# Altium footprint library PCB_OuvrePorte_raspdim.PcbLib: 13 footprints
Each footprint in its own frame and in the unit in brackets; x right, y up, seen from the top. Pads: shape width x height; smd on the part's side, far side on the other; paste and mask are expansions set on the pad; w line width, h text height; cw(c..) or ccw(c..) is an arc to the next point about the centre after c.
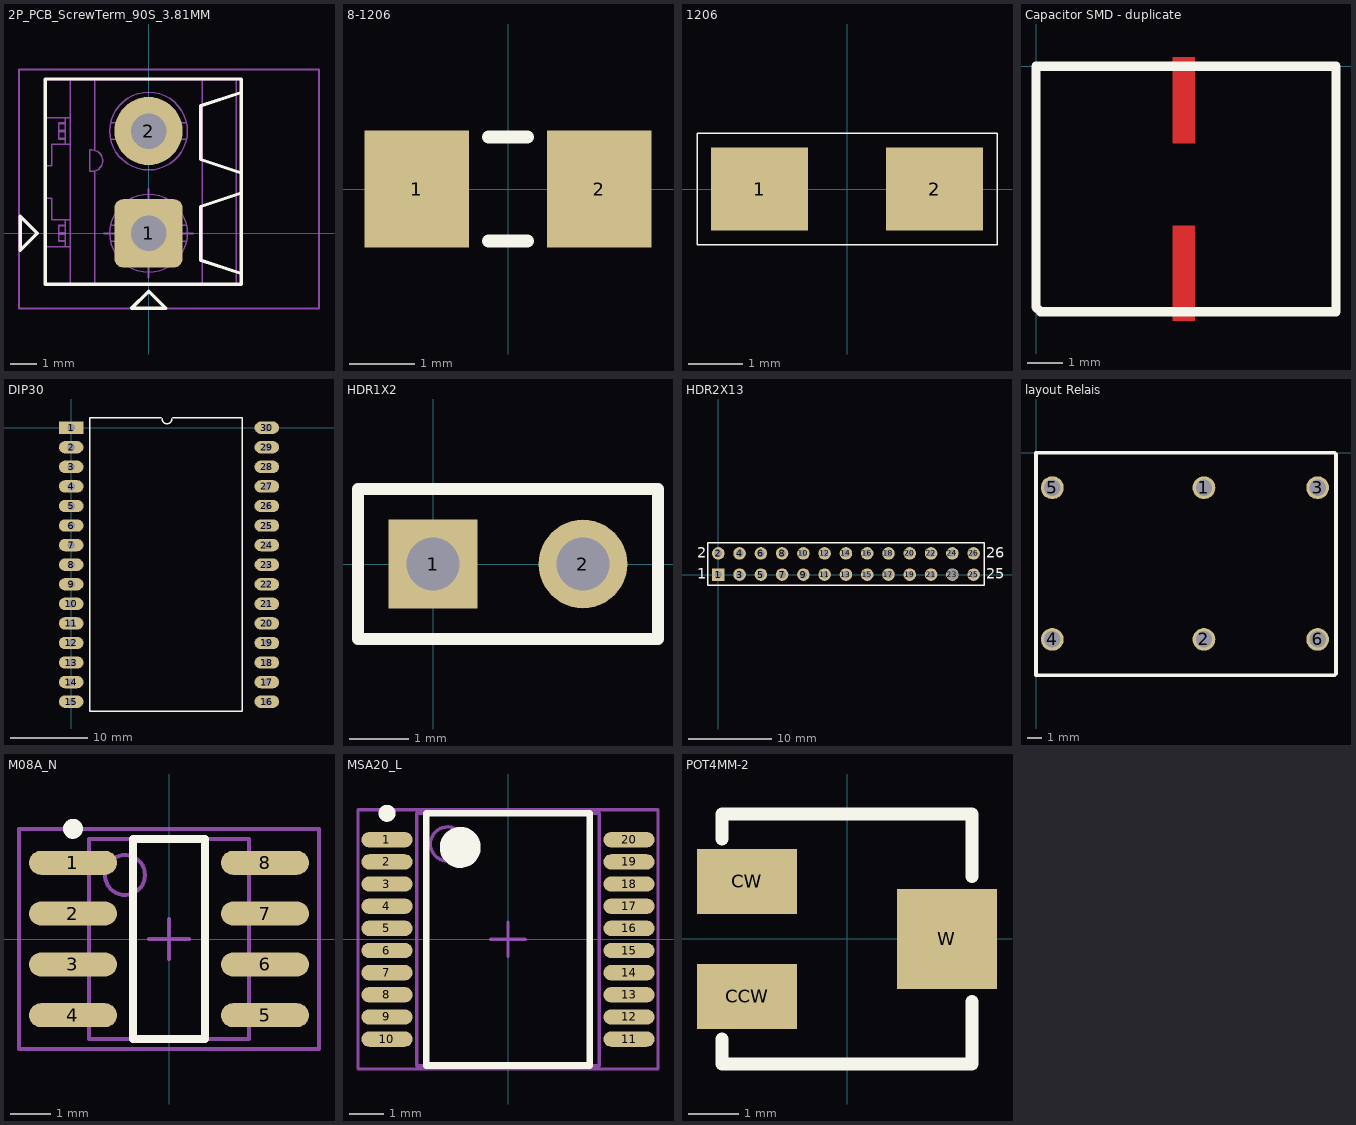
[diagram p0: the footprints below, top view; thin cyan lines are the x and y axes]

## 2P_PCB_ScrewTerm_90S_3.81MM [mil] "TERM BLOCK 2POS SIDE ENT STACKABLE 3.81MM"
height 334.65
pads (2):
  rrect25% 100x100 hole 52: 1(0,0)
  round 100 hole 52: 2(0,150)
Top Overlay:
  lines w5: 135.83,-59.06 76.78,-39.37 76.78,39.37 135.83,59.06 ; 135.83,88.58 76.78,108.27 76.78,187.01 135.83,206.69 ; -188,-25 -163,0 -188,25 -188,-25 ; -151.57,-75 -151.57,226.38 135.83,226.38 135.83,-75 -151.57,-75 ; -25,-110 25,-110 0,-85 -25,-110
Mechanical 13:
  circle w1.97: c0,0 r57.09
  circle w1.97: c0,150 r57.09
  lines w1.97: -151.57,-19.69 -114.76,-19.69 -114.76,19.68 -141.73,19.68 -141.73,51.18 -151.57,51.18 ; -151.57,98.82 -141.73,98.82 -141.73,130.31 -114.76,130.31 -114.76,169.69 -151.57,169.69 ; -131.89,-10.91 -122.05,-10.91 ; -131.89,-1.06 -122.05,-1.06 ; -131.89,1.06 -122.05,1.06 ; -131.89,10.91 -122.05,10.91 ; -131.89,139.09 -122.05,139.09 ; -131.89,148.94 -122.05,148.94 ; -131.89,151.06 -122.05,151.06 ; -131.89,160.91 -122.05,160.91 ; -122.05,-19.69 -122.05,19.68 ; -122.05,-11.81 -131.89,-11.81 -131.89,11.81 -122.05,11.81 ; -122.05,130.31 -122.05,169.69 ; -122.05,138.19 -131.89,138.19 -131.89,161.81 -122.05,161.81 ; -114.56,-75 -114.56,225 ; -78.74,-75 -78.74,91.34 ; -78.74,121.65 -78.74,225 ; -55.85,-11.81 55.85,-11.81 ; -55.85,11.81 55.85,11.81 ; -55.85,138.19 55.85,138.19 ; -55.85,161.81 55.85,161.81 ; 78.74,-75 78.74,225 ; 128.89,-75 128.89,225 ; -151.57,-75 -151.57,225 135.83,225 135.83,-75 -151.57,-75 ; -85.91,90.75 -83.03,90.75 ccw(c-83.03,106.5) -83.03,122.24 -85.91,122.24 -85.91,90.75
Mechanical 14:
  lines w3: -65,0 65,0 ; 0,-65 0,65 ; -190,-110 -190,240 250,240 250,-110 -190,-110
3D body: height 334.65, standoff -137.8, extent -151.57,-75.19 135.83,224.81

## 8-1206 [mm] "Chip Resistor; Body 3.1 x 1.6 mm (LxW typ)"
height 0.7
pads (2):
  rect 1.6x1.8 smd: 1(-1.4,0) 2(1.4,0)
Top Overlay:
  lines w0.2: -0.3,-0.8 0.3,-0.8 ; -0.3,0.8 0.3,0.8

## 1206 [mil]
pads (2):
  rect 70x60 smd: 1(-63,0) 2(63,0)
Top Overlay:
  lines w1: -108,-40 -108,0 -108,40 108,40 108,-40 -108,-40

## Capacitor smd [mm]

## Capacitor SMD - duplicate [mm]
Top Layer:
  rectangle: 3.81,-2.159 4.445,0.254
  rectangle: 3.81,-7.112 4.445,-4.445
Top Overlay:
  lines w0.254: 0,-6.731 0.127,-6.858 8.382,-6.858 8.382,0 0,0 0,-6.731

## DIP30 [mm]
pads (30):
  rect 3.2x1.6 hole 1: 1(0,0)
  oval 3.2x1.6 hole 1: 2(0,-2.54) 3(0,-5.08) 4(0,-7.62) 5(0,-10.16) 6(0,-12.7) 7(0,-15.24) 8(0,-17.78) 9(0,-20.32) 10(0,-22.86) 11(0,-25.4) 12(0,-27.94) 13(0,-30.48) 14(0,-33.02) 15(0,-35.56) 16(25.4,-35.56) 17(25.4,-33.02) 18(25.4,-30.48) 19(25.4,-27.94) 20(25.4,-25.4) 21(25.4,-22.86) 22(25.4,-20.32) 23(25.4,-17.78) 24(25.4,-15.24) 25(25.4,-12.7) 26(25.4,-10.16) 27(25.4,-7.62) 28(25.4,-5.08) 29(25.4,-2.54) 30(25.4,0)
Top Overlay:
  lines w0.2: 11.684,1.27 2.435,1.27 2.435,-36.83 22.225,-36.83 22.225,1.27 13.208,1.27 ; 11.811,1.143 ccw(c12.446,1.143) 13.081,1.143

## HDR1X2 [mm] "Connector; Header; 2 Position"
pads (2):
  rect 1.5x1.5 hole 0.9: 1(0,0)
  round 1.5 hole 0.9: 2(2.54,0)
Top Overlay:
  lines w0.2: -1.27,-1.27 -1.27,1.27 3.81,1.27 3.81,-1.27 -1.27,-1.27

## HDR2X13 [mm] "Connector; Header; 13x2 Position"
pads (26):
  rect 1.5x1.5 hole 0.9: 1(0,0)
  round 1.5 hole 0.9: 2(0,2.54) 3(2.54,0) 4(2.54,2.54) 5(5.08,0) 6(5.08,2.54) 7(7.62,0) 8(7.62,2.54) 9(10.16,0) 10(10.16,2.54) 11(12.7,0) 12(12.7,2.54) 13(15.24,0) 14(15.24,2.54) 15(17.78,0) 16(17.78,2.54) 17(20.32,0) 18(20.32,2.54) 19(22.86,0) 20(22.86,2.54) 21(25.4,0) 22(25.4,2.54) 24(27.94,2.54) 25(30.48,0) 26(30.48,2.54)
  round 1.5 hole 1.3: 23(27.94,0)
Top Overlay:
  lines w0.2: -1.27,-1.27 31.75,-1.27 31.75,3.81 -1.27,3.81 -1.27,-1.27
  text "26" at 32.004,2.032 h1.27
  text "25" at 32.004,-0.508 h1.27
  text "1" at -2.54,-0.508 h1.27
  text "2" at -2.54,2.032 h1.27

## layout Relais [mm]
pads (6):
  round 1.524 hole 1.09: 1(11.25,-2.34) 2(11.25,-12.5) 3(18.87,-2.34) 4(1.09,-12.5) 5(1.09,-2.34) 6(18.87,-12.5)
Top Overlay:
  lines w0.254: 20,-14.9 0,-14.9 0,-14 0,0 20,0 20.1,-0.1 20.1,-13.9 20.1,-14.8

## M08A_N [mm] "SOIC, 8-Leads, Body 4.9x3.9mm, Pitch 1.27mm, IPC Medium Density"
height 1.75
pads (8):
  oval 2.2x0.6 smd: 1(-2.4,1.905) 2(-2.4,0.635) 3(-2.4,-0.635) 4(-2.4,-1.905) 5(2.4,-1.905) 6(2.4,-0.635) 7(2.4,0.635) 8(2.4,1.905)
Top Overlay:
  circle w0.25: c-2.4,2.755 r0.125
  lines w0.2: -0.9,-2.5 -0.9,2.5 0.9,2.5 0.9,-2.5 -0.9,-2.5
Mechanical 13:
  circle w0.1: c-1.1,1.6 r0.5
  lines w0.1: -2,-2.5 -2,2.5 2,2.5 2,-2.5 -2,-2.5
Mechanical 15:
  lines w0.1: -0.5,0 0.5,0 ; 0,-0.5 0,0.5 ; -3.75,-2.75 -3.75,2.75 3.75,2.75 3.75,-2.75 -3.75,-2.75
3D body: height 1.75, standoff 0, extent -2,-2.5 2,2.5

## MSA20_L [mm] "SOP, 20-Leads, Body 7.3x5.3mm, Pitch 0.65mm, IPC High Density"
height 2.02
pads (20):
  oval 1.5x0.45 smd: 1(-3.55,2.925) 2(-3.55,2.275) 3(-3.55,1.625) 4(-3.55,0.975) 5(-3.55,0.325) 6(-3.55,-0.325) 7(-3.55,-0.975) 8(-3.55,-1.625) 9(-3.55,-2.275) 10(-3.55,-2.925) 11(3.55,-2.925) 12(3.55,-2.275) 13(3.55,-1.625) 14(3.55,-0.975) 15(3.55,-0.325) 16(3.55,0.325) 17(3.55,0.975) 18(3.55,1.625) 19(3.55,2.275) 20(3.55,2.925)
Top Overlay:
  circle w0.6: c-1.4,2.7 r0.3
  circle w0.25: c-3.55,3.7 r0.125
  lines w0.2: -2.4,-3.7 2.4,-3.7 2.4,3.7 -2.4,3.7 -2.4,-3.7
Mechanical 13:
  circle w0.1: c-1.775,2.8 r0.5
  lines w0.1: -2.675,-3.7 2.675,-3.7 2.675,3.7 -2.675,3.7 -2.675,-3.7
Mechanical 15:
  lines w0.1: -0.5,0 0.5,0 ; 0,-0.5 0,0.5 ; -4.4,-3.8 4.4,-3.8 4.4,3.8 -4.4,3.8 -4.4,-3.8
3D body: height 2.02, standoff 0, extent -2.675,-3.7 2.675,3.7

## PCBComponent_1 [mm]

## POT4MM-2 [mm] "Square Trimming Potentiometer"
pads (3):
  rect 2x1.3 smd: CCW(-2,-1.15) CW(-2,1.15)
  rect 2x2 smd: W(2,0)
Top Overlay:
  lines w0.254: -2.5,-2 -2.5,-2.5 2.5,-2.5 2.5,-1.25 ; -2.5,2 -2.5,2.5 2.5,2.5 2.5,1.25